# Altium footprint library 元件库.PcbLib: 1 footprints
Each footprint in its own frame and in the unit in brackets; x right, y up, seen from the top. Pads: shape width x height; smd on the part's side, far side on the other; paste and mask are expansions set on the pad; w line width, h text height; cw(c..) or ccw(c..) is an arc to the next point about the centre after c.
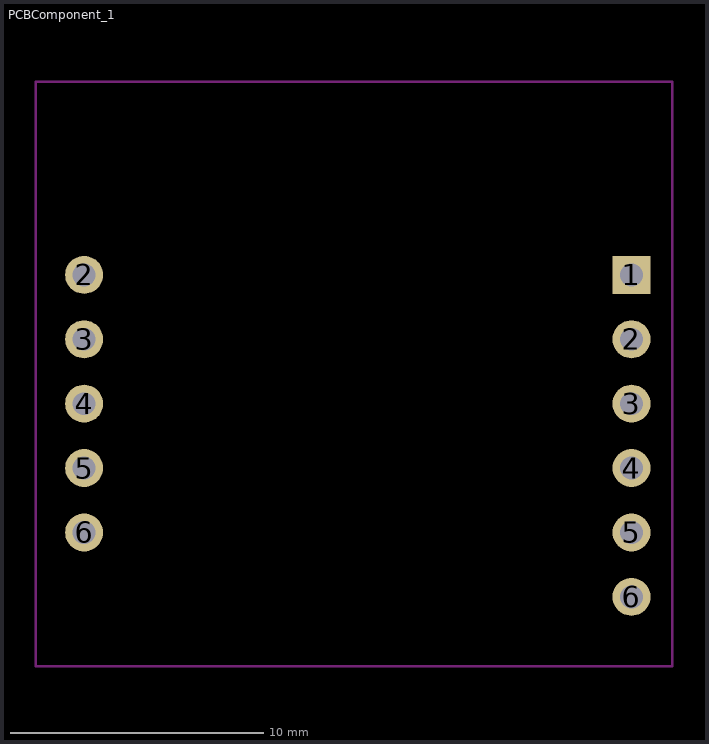
[diagram p0: the footprint, top view; thin cyan lines are the x and y axes]

## PCBComponent_1 [mm]
pads (11):
  rect 1.5x1.5 hole 0.9: 1(-509.37,-898.246)
  round 1.5 hole 0.9: 2(-530.96,-898.246) 2(-509.37,-900.786) 3(-530.96,-900.786) 3(-509.37,-903.326) 4(-530.96,-903.326) 4(-509.37,-905.866) 5(-530.96,-905.866) 5(-509.37,-908.406) 6(-530.96,-908.406) 6(-509.37,-910.946)
Bottom Overlay:
  lines w0.1: -532.23,-896.62 -529.69,-896.62
  lines w0.2: -532.23,-896.62 -532.23,-909.676 -529.69,-909.676 -529.69,-896.62 ; -510.64,-912.216 -508.1,-912.216 -508.1,-896.976 -510.64,-896.976 -510.64,-912.216
Keep-Out Layer:
  lines w0.1: -532.865,-913.686 -507.765,-913.686 -507.765,-890.626 -532.865,-890.626 -532.865,-913.686